# Altium schematic symbol library PSOM.SchLib: 1 symbol
Pins are listed as number, name and electrical type; pins without a type are passive.

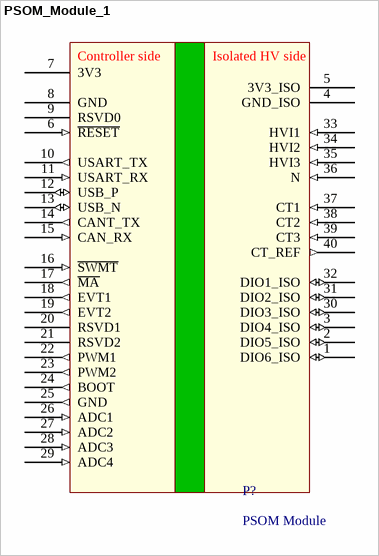
[diagram p0: symbol PSOM_Module_1]

## PSOM_Module_1
designator P?, comment PSOM Module
Power analysis system on a module; Contact: nilsminor@web.de; Creator: Nils Minor; Version: V1; Creation Date: 14.10.2016; Information: https://github.com/NilsMinor/PSOM
footprint PSOM_SMD
footprint PSOM_THT
pins: 1 DIO6_ISO (io) "3V3 isolated GPIO (HV side)", 2 DIO5_ISO (io) "3V3 isolated GPIO (HV side)", 3 DIO4_ISO (io) "3V3 isolated GPIO (HV side)", 4 GND_ISO (power) "GND isolated (HV side)", 5 3V3_ISO (power) "3V3 ioslated voltage source (HV side)", 6 ~{RESET} (in) "Reset Input active low", 7 3V3 (power) "3V3 module power supply VDD", 8 GND (power) "GND module VCC", 9 RSVD0, 10 USART_TX (out) "USART_TX output", 11 USART_RX (in) "USART_RX input", 12 USB_P (io) "USB+", 13 USB_N (io) "USB-", 14 CANT_TX (out), 15 CAN_RX (in), 16 ~{SWMT} (in) "Software Measurment Trigger, active low", 17 ~{MA} (out) "Measurment Active, low active", 18 EVT1 (out), 19 EVT2 (out), 20 RSVD1 "reserved pin 1 for future use", 21 RSVD2 "reserved pin 2 for future use", 22 PWM1 (out), 23 PWM2 (out), 24 BOOT (out), 25 GND (out), 26 ADC1 (in), 27 ADC2 (in), 28 ADC3 (in), 29 ADC4 (in), 30 DIO3_ISO (io) "3V3 isolated GPIO (HV side)", 31 DIO2_ISO (io) "3V3 isolated GPIO (HV side)", 32 DIO1_ISO (io) "3V3 isolated GPIO (HV side)", 33 HVI1 (in) "High voltage input 1", 34 HVI2 (in) "High voltage input 2", 35 HVI3 (in) "High voltage input 3", 36 N (in) "Neutral line input", 37 CT1 (in) "Current transformer input 1", 38 CT2 (in) "Current transformer input 2", 39 CT3 (in) "Current transformer input 3", 40 CT_REF (out) "Reference source for Current transformers"
text: Controller side; Isolated HV side